# EAGLE library part TBD62083AFWGEL (library dr-library)
Toshiba DMOS transistor array TBD62083AFWG series http://www.mouser.com/ds/2/408/TBD62083AFWG_datasheet_en_20160511-769679.pdf
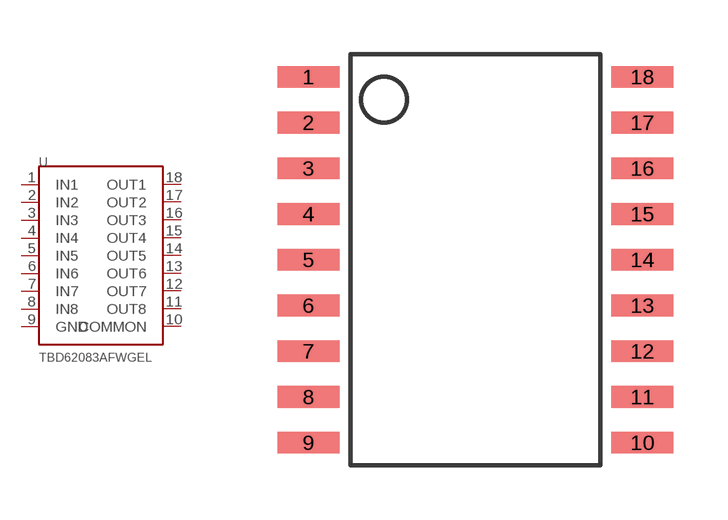
[diagram p32: symbol with the pads of P-SOP18-0812-1.27-001; footprint P-SOP18-0812-1.27-001]

Designator prefix U

## TBD62083AFWGELPSOP18  [P-SOP18-0812-1.27-001]
1  IN1  in
2  IN2  in
3  IN3  in
4  IN4  in
5  IN5  in
6  IN6  in
7  IN7  in
8  IN8  in
9  GND  in
10  COMMON  pwr
11  OUT8  pwr
12  OUT7  pwr
13  OUT6  pwr
14  OUT5  pwr
15  OUT4  pwr
16  OUT3  pwr
17  OUT2  pwr
18  OUT1  pwr

## Footprint P-SOP18-0812-1.27-001 (pad centres in mm)
smd 1.725 x 0.6: 1 -4.638,5.08; 2 -4.638,3.81; 3 -4.638,2.54; 4 -4.638,1.27; 5 -4.638,0; 6 -4.638,-1.27; 7 -4.638,-2.54; 8 -4.638,-3.81; 9 -4.638,-5.08; 10 4.638,-5.08; 11 4.638,-3.81; 12 4.638,-2.54; 13 4.638,-1.27; 14 4.638,0; 15 4.638,1.27; 16 4.638,2.54; 17 4.638,3.81; 18 4.638,5.08